# Altium footprint library Switch.PcbLib: 27 footprints (part 1 of 2)
Each footprint in its own frame and in the unit in brackets; x right, y up, seen from the top. Pads: shape width x height; smd on the part's side, far side on the other; paste and mask are expansions set on the pad; w line width, h text height; cw(c..) or ccw(c..) is an arc to the next point about the centre after c.
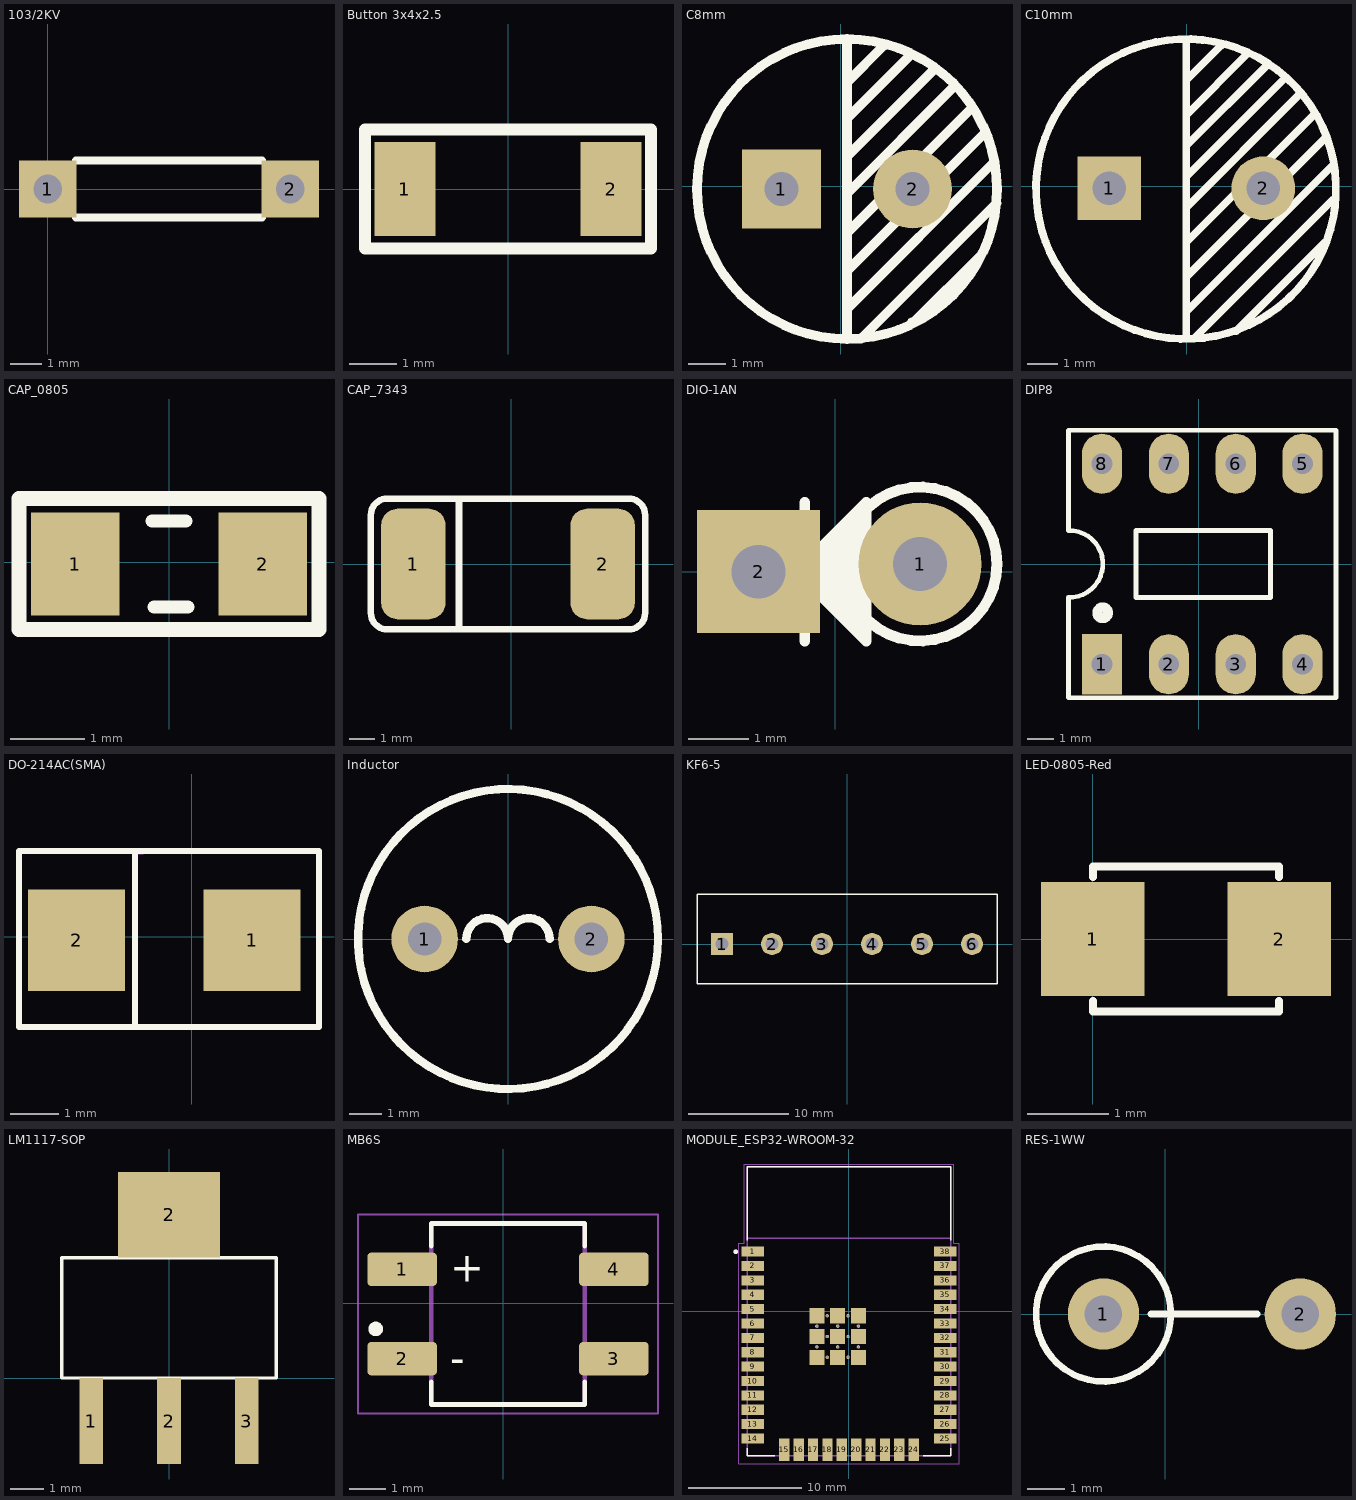
[diagram p0: the footprints below, top view; thin cyan lines are the x and y axes]

## 103/2KV [mm]
height 9
pads (2):
  rect 1.8x1.8 hole 0.9: 1(0,0) 2(7.62,0)
Top Overlay:
  lines w0.254: 0.889,-0.889 6.731,-0.889 ; 0.889,0.889 6.731,0.889
3D body "User Library-Panasonic ECK-A3D102KBP.step": height 9.03, standoff -4.16, extent -0.19,-1.198 7.811,1.195

## Button 3x4x2.5 [mm]
height 9
pads (2):
  rect 1.3x2 smd: 1(-2.2,0) 2(2.2,0)
Top Overlay:
  lines w0.254: -3.048,-1.27 3.048,-1.27 3.048,1.27 -3.048,1.27 -3.048,-1.27
3D body "User Library-Pushbutton3x4x2.STEP": height 2, standoff 0, extent -2.45,-1.45 2.45,1.45

## C8mm [mm]
height 9
pads (2):
  rect 2.1x2.1 hole 0.9: 1(-1.581,-0.069)
  round 2.1 hole 0.9: 2(1.919,-0.069)
Top Overlay:
  circle w0.254: c0.169,-0.069 r4
  lines w0.254: 0.169,-4.069 0.169,3.931 ; 0.169,-3.269 4.055,0.617 ; 0.169,-2.253 3.852,1.43 ; 0.169,-1.44 0.169,-1.237 3.496,2.09 ; 0.169,-0.653 0.169,-0.196 3.039,2.675 ; 0.169,0.49 0.169,0.795 2.48,3.106 ; 0.169,1.227 0.169,1.811 1.845,3.487 ; 0.169,2.573 0.169,2.776 1.134,3.741 ; 0.22,-4.056 0.55,-4.056 4.157,-0.45 ; 1.896,-3.625 1.947,-3.625 3.75,-1.821
3D body "Cap electro 8x10.step": height 13.81, standoff -3.49, extent -3.931,-4.143 4.269,4.057

## C10mm [mm]
height 9
pads (2):
  rect 2.1x2.1 hole 1.1: 1(-2.549,-0.062)
  round 2.1 hole 1.1: 2(2.531,-0.062)
Top Overlay:
  lines w0.254: -0.009,-4.126 4.817,0.7 ; -0.009,-3.364 -0.009,-2.983 4.563,1.589 ; -0.009,-1.967 -0.009,-1.84 4.182,2.351 ; -0.009,-1.205 -0.009,-0.697 3.674,2.986 ; -0.009,0.192 -0.009,0.319 3.166,3.494 ; -0.009,1.335 2.658,4.002 ; -0.009,1.843 -0.009,2.351 2.023,4.383 ; -0.009,2.859 -0.009,3.494 1.134,4.637 ; -0.009,4.764 -0.009,-5.015 0.245,-5.015 4.817,-0.443 ; 1.642,-4.761 4.563,-1.84 ; 3.582,3.303 ccw(c-0.017,-0.084) 3.614,3.268
3D body "User Library-Capacitor Radial Electrolitic 500-1000x2000.step": height 20.01, standoff -2.7, extent -5.009,-5.062 4.958,4.938

## CAP_0805 [mm]
height 1.27
pads (2):
  rect 1.2x1.4 smd: 1(-1.27,-0.025) 2(1.27,-0.025)
Top Overlay:
  lines w0.178: -0.229,0.559 0.229,0.559 ; -0.203,-0.61 0.254,-0.61
  lines w0.2: -0.381,0.864 2.032,0.864 2.032,-0.914 -0.33,-0.914 ; -0.367,-0.914 -2.032,-0.914 -2.032,0.864 -0.367,0.864
3D body "SW3dPS-smt_resistor_packages.STEP": height 0.61, standoff -0.01, extent -1.006,-0.664 1.014,0.606

## CAP_7343 [mm] "Capacitor Tantalum 7343"
height 9
pads (2):
  rrect50% 2.5x4.3 smd: 1(-3.81,0) 2(3.556,0)
Top Overlay:
  lines w0.254: -2.032,-2.54 -2.032,2.54 ; -5.461,-1.905 ccw(c-4.826,-1.905) -4.826,-2.54 4.572,-2.54 ccw(c4.572,-1.905) 5.207,-1.905 5.207,1.905 ccw(c4.572,1.905) 4.572,2.54 -4.826,2.54 ccw(c-4.826,1.905) -5.461,1.905 -5.461,-1.905
3D body: height 3, standoff 0, extent -3.81,-2.286 3.556,2.286

## DIO-1AN [mil] "Diode 1A, W 100mil, L 150mil"
height 100
pads (2):
  round 80 hole 35: 1(55,5)
  rect 80x80 hole 35: 2(-50,0)
Top Overlay:
  circle w7: c55,5 r50
  region: 20,40 20,-40 15,-40 -20,-5 -20,5
  lines w7: -30,0 -20,0 ; -20,-45 -20,45 ; -20,-5 20,-45 20,45 -20,5 -20,-5
3D body "SW3dPS-1N4007_Stand.STEP": height 252.32, standoff -78.14, extent -64,-50 104,55

## DIP8 [mil] "DIP, 8-Leads, Row Spacing 7.62mm, Pitch 2.54mm, Body 9.91x6.73mm"
height 200
pads (8):
  rect 60x90 hole 31: 1(-145,-150)
  oval 60x90 hole 31: 2(-45,-150) 3(55,-150) 4(155,-150) 5(155,150) 6(55,150) 7(-45,150) 8(-145,150)
Top Overlay:
  circle w15: c-144,-73 r8
  lines w7: -195.38,-49.95 ccw(c-193.69,0.02) -195,50 ; -195,-50 -195,-200 205,-200 205,200 -195,200 -195,51 ; -94,-50 -94,50 107,50 107,-50 -94,-50
3D body "User Library-DIP8-300-metric.step": height 177.17, standoff -137.8, extent -212.6,-152.76 212.6,152.77

## DO-214AC(SMA) [mm] "DO-214AC Diode Smallest Size"
height 9
pads (2):
  rect 2x2.1 smd: 1(1.245,-0.076) 2(-2.367,-0.076)
Top Overlay:
  lines w0.127: -1.168,-1.854 -1.168,1.753 ; -3.556,-1.861 -3.556,1.759 -2.776,1.759 2.624,1.759 2.624,-1.861 -2.776,-1.861 -3.556,-1.861
Mechanical 1:
  lines w0.127: -1.118,1.753 -1.016,1.753
3D body "User Library-DO-214Aa SMA.step": height 2.4, standoff 0, extent -3.133,-1.376 2.067,1.224

## Inductor [mil]
height 354.33
pads (2):
  round 80 hole 40: 1(-100,0) 2(100,0)
Top Overlay:
  circle w10: c0,0 r180
  lines w10: -50,0 cw(c-25,0) 0,0 cw(c25,0) 50,0
3D body "User Library-RLB 0912.STEP": height 393.7, standoff -196.85, extent -171.26,-171.26 171.26,171.26

## KF6-5 [mm] "Serie 1337 - 5.00 mm_6 pins"
height 13
pads (6):
  rect 2.2x2.2 hole 1.3: 1(-12.5,0)
  round 2.2 hole 1.3: 2(-7.5,0) 3(-2.5,0) 4(2.5,0) 5(7.5,0) 6(12.5,0)
Top Overlay:
  lines w0.127: -15,-4 15,-4 15,5 -15,5 -15,-4
3D body "691133710006.stp": height 13, standoff -3.6, extent -15,-4 15,5

## LED-0805-Red [mil]
height 354.33
pads (2):
  rect 50x55 smd: 1(0,0) 2(90,0)
Top Overlay:
  lines w4: 0,-30 0,-35 90,-35 90,-30 ; 0,30 0,35 90,35 90,30
3D body "User Library-led_0805-red.step": height 43.31, standoff 0, extent 5.25,-24.6 84.77,24.62

## LM1117-SOP [mm]
height 9
pads (4):
  rect 0.7x2.54 smd: 1(-2.3,-1.27) 2(0,-1.27) 3(2.3,-1.27)
  rect 3x2.54 smd: 2(0,4.826)
Top Overlay:
  lines w0.1: -3.175,0 -3.175,3.556 3.175,3.556 3.175,0 -3.175,0
3D body "SW3DPS-SOT-223-DEFAULT.step": height 1.68, standoff 0, extent -3.25,-1.778 3.25,5.182

## MB6S [mm]
height 9
pads (4):
  rrect23% 1.91x0.91 smd: 1(-2.774,0.935) 2(-2.774,-1.515) 3(3.026,-1.515) 4(3.026,0.935)
Top Overlay:
  circle w0.2: c-3.5,-0.7 r0.1
  lines w0.127: -1.974,-2.15 -1.974,-2.77 2.226,-2.77 2.226,-2.15 ; -1.974,1.57 -1.974,2.19 2.226,2.19 2.226,1.57
  text "-" at -1.45,-1.9 h0.81
  text "+" at -1.45,0.6 h0.81
Mechanical 13:
  lines w0.127: -1.974,-2.77 -1.974,2.19 2.226,2.19 2.226,-2.77 -1.974,-2.77
Mechanical 15:
  lines w0.05: -3.984,-3.02 -3.984,2.44 4.236,2.44 4.236,-3.02 -3.984,-3.02
3D body "MB6S.STEP": height 2.7, standoff -0.2, extent -3.15,-2.612 3.55,2.113

## MODULE_ESP32-WROOM-32 [mm]
height 9
pads (59):
  rect 2x0.9 smd: 1(-8.5,5.26) 2(-8.5,3.99) 3(-8.5,2.72) 4(-8.5,1.45) 5(-8.5,0.18) 6(-8.5,-1.09) 7(-8.5,-2.36) 8(-8.5,-3.63) 9(-8.5,-4.9) 10(-8.5,-6.17) 11(-8.5,-7.44) 12(-8.5,-8.71) 13(-8.5,-9.98) 14(-8.5,-11.25) 25(8.5,-11.25) 26(8.5,-9.98) 27(8.5,-8.71) 28(8.5,-7.44) 29(8.5,-6.17) 30(8.5,-4.9) 31(8.5,-3.63) 32(8.5,-2.36) 33(8.5,-1.09) 34(8.5,0.18) 35(8.5,1.45) 36(8.5,2.72) 37(8.5,3.99) 38(8.5,5.26)
  rect 0.9x2 smd: 15(-5.715,-12.25) 16(-4.445,-12.25) 17(-3.175,-12.25) 18(-1.905,-12.25) 19(-0.635,-12.25) 20(0.635,-12.25) 21(1.905,-12.25) 22(3.175,-12.25) 23(4.445,-12.25) 24(5.715,-12.25)
  rect 1.33x1.33 smd: 39_1(-2.835,-0.405) 39_2(-1,-0.405) 39_3(0.835,-0.405) 39_4(-2.835,-2.24) 39_5(-1,-2.24) 39_6(0.835,-2.24) 39_7(-2.835,-4.075) 39_8(-1,-4.075) 39_9(0.835,-4.075)
  round 0.3 hole 0.2: 39_10(-1.917,-0.405) 39_11(-0.082,-0.405) 39_12(-2.835,-1.322) 39_13(-1,-1.322) 39_14(0.835,-1.322) 39_15(-1.917,-2.24) 39_16(-0.082,-2.24) 39_17(-2.835,-3.157) 39_18(-1,-3.157) 39_19(0.835,-3.157) 39_20(-1.917,-4.075) 39_21(-0.082,-4.075)
Top Overlay:
  circle w0.2: c-10,5.25 r0.1
  lines w0.127: -9,-12.1 -9,-12.75 -6.55,-12.75 ; -9,6.25 -9,12.75 9,12.75 9,6.25 ; 6.55,-12.75 9,-12.75 9,-12.1
Mechanical 13:
  circle w0.2: c-10,5.25 r0.1
  lines w0.127: -9,6.45 9,6.45 ; -9,6.45 -9,12.75 9,12.75 9,6.45 ; -9,6.45 -9,-12.75 9,-12.75 9,6.45
  text "ANTENNA" at -6,9 h1.78
Mechanical 15:
  lines w0.05: -9.75,-13.5 -9.75,6 -9.25,6 -9.25,13 9.25,13 9.25,6 9.75,6 9.75,-13.5 -9.75,-13.5
3D body "ESP32-WROOM-32.STEP": height 3.2, standoff 0, extent -9.017,-12.75 8.983,12.75

## RES-1WW [mm]
height 2.54
pads (2):
  round 1.905 hole 1: 1(-1.651,0) 2(3.6,0)
Top Overlay:
  circle w0.178: c-1.651,0 r1.8
  lines w0.178: -0.381,0 1.016,0 ; 1.019,0 2.45,0